# Altium footprint library Class4_Antenna.PcbLib: 1 footprints
Each footprint in its own frame and in the unit in brackets; x right, y up, seen from the top. Pads: shape width x height; smd on the part's side, far side on the other; paste and mask are expansions set on the pad; w line width, h text height; cw(c..) or ccw(c..) is an arc to the next point about the centre after c.
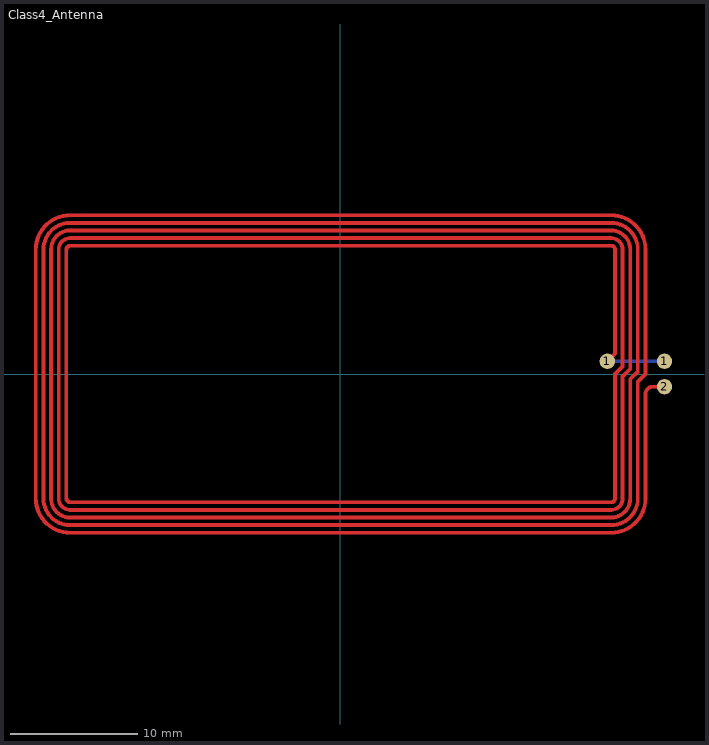
[diagram p0: the footprint, top view; thin cyan lines are the x and y axes]

## Class4_Antenna [mm]
pads (3):
  round 1.208 smd: 1(21.02,1) 1(25.52,1) 2(25.52,-1)
Top Layer:
  lines w0.3: -23.38,-9.8 -23.38,9.8 ; -23.38,-9.8 ccw(c-21.28,-9.8) -21.28,-11.9 21.32,-11.9 ccw(c21.32,-9.8) 23.42,-9.8 23.42,-0.6 24.02,0 24.02,9.8 ccw(c21.32,9.8) 21.32,12.5 -21.28,12.5 ccw(c-21.28,9.8) -23.98,9.8 -23.98,-9.8 ccw(c-21.28,-9.8) -21.28,-12.5 21.32,-12.5 ccw(c21.32,-9.8) 24.02,-9.8 24.02,-1.6 cw(c24.62,-1.6) 24.62,-1 25.52,-1 ; -23.38,9.8 cw(c-21.28,9.8) -21.28,11.9 21.32,11.9 cw(c21.32,9.8) 23.42,9.8 23.42,0.2 22.82,-0.4 22.82,-9.8 cw(c21.32,-9.8) 21.32,-11.3 -21.28,-11.3 cw(c-21.28,-9.8) -22.78,-9.8 -22.78,9.8 cw(c-21.28,9.8) -21.28,11.3 21.32,11.3 cw(c21.32,9.8) 22.82,9.8 22.82,0.4 22.22,-0.2 22.22,-9.8 cw(c21.32,-9.8) 21.32,-10.7 -21.28,-10.7 cw(c-21.28,-9.8) -22.18,-9.8 -22.18,9.8 cw(c-21.28,9.8) -21.28,10.7 21.32,10.7 cw(c21.32,9.8) 22.22,9.8 22.22,0.6 21.62,0 21.62,-9.8 cw(c21.32,-9.8) 21.32,-10.1 -21.28,-10.1 cw(c-21.28,-9.8) -21.58,-9.8 -21.58,9.8 cw(c-21.28,9.8) -21.28,10.1 21.32,10.1 cw(c21.32,9.8) 21.62,9.8 21.62,1.6 21.02,1
Bottom Layer:
  lines w0.3: 21.02,1 25.52,1
Top Solder:
  text "48 x 25 mm" at 6.7,3.12 h2.76
  text "w = 0.3mm" at -19.3,2.92 h2.76
  text "g = 0.3 mm" at -19.3,-7.16 h2.76
  text "5 turns" at 6.7,-7.24 h2.76
  text "Class 4 - 50 pF #01" at -9.8,6.7 h2.76
3D body: height 1.27, standoff 0, extent 24.751,0.231 26.289,1.769
3D body: height 1.27, standoff 0, extent 24.751,-1.769 26.289,-0.231
3D body: height 1.27, standoff 0, extent 20.251,0.231 21.788,1.769